# Altium footprint library 11.27呼叫器.PcbLib: 19 footprints (part 1 of 2)
Each footprint in its own frame and in the unit in brackets; x right, y up, seen from the top. Pads: shape width x height; smd on the part's side, far side on the other; paste and mask are expansions set on the pad; w line width, h text height; cw(c..) or ccw(c..) is an arc to the next point about the centre after c.
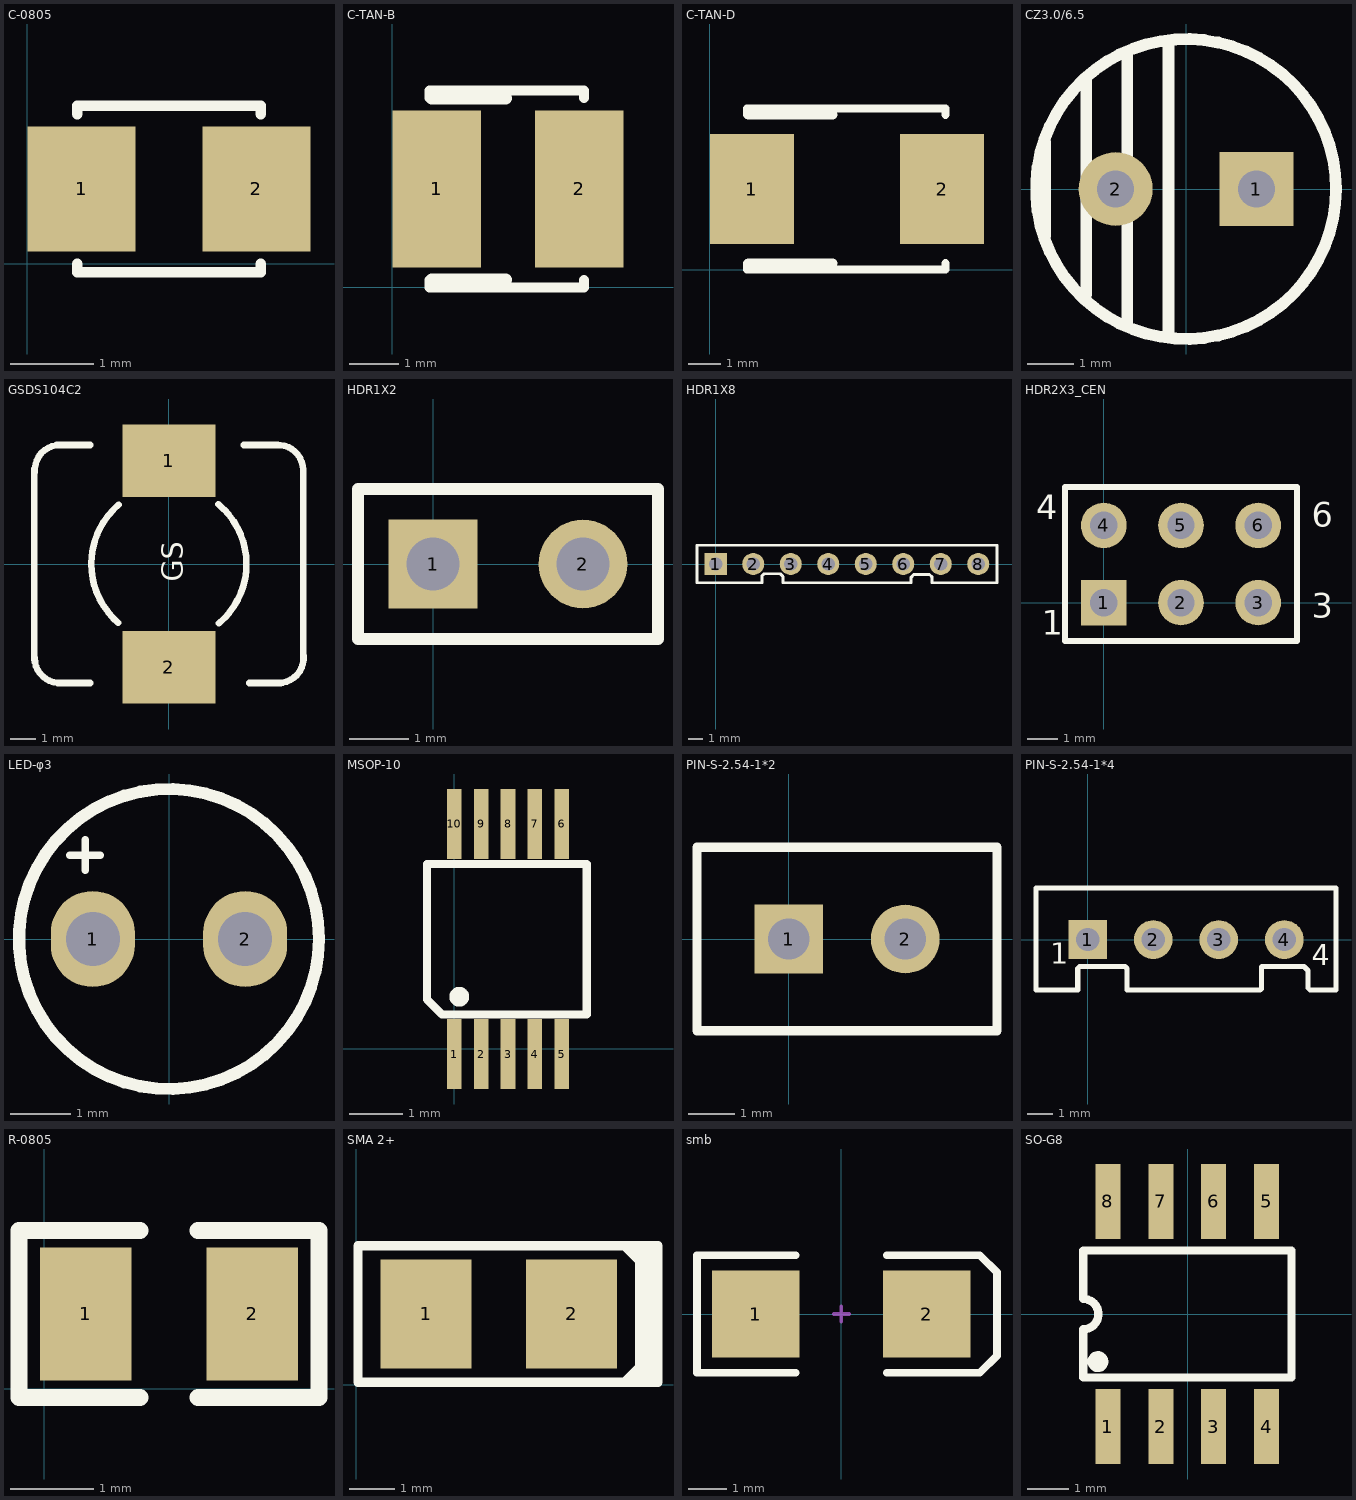
[diagram p0: the footprints below, top view; thin cyan lines are the x and y axes]

## C-0805 [mm]
height 1.5
pads (2):
  rect 1.3x1.5 smd: 1(0.65,0.9) 2(2.75,0.9)
Top Overlay:
  lines w0.127: 0.6,0 0.6,-0.1 2.8,-0.1 2.8,0 ; 0.6,1.8 0.6,1.9 2.8,1.9 2.8,1.8

## C-TAN-B [mm]
height 3
pads (2):
  rect 1.8x3.2 smd: 1(0.9,2) 2(3.8,2)
Top Overlay:
  lines w0.203: 0.75,0 0.75,0.15 ; 0.75,3.85 0.75,4 ; 0.8,0 3.9,0 3.9,0.15 ; 0.8,4 3.9,4 3.9,3.85
  lines w0.254: 0.8,0.15 2.3,0.15 ; 0.8,3.85 2.3,3.85

## C-TAN-D [mm]
height 3.7
pads (2):
  rect 2.6x3.4 smd: 1(1.3,2.5) 2(7.2,2.5)
Top Overlay:
  lines w0.254: 1.15,0 1.15,0.2 ; 1.15,4.8 1.15,5 ; 1.2,0 7.3,0 7.3,0.2 ; 1.2,5 7.3,5 7.3,4.8
  lines w0.305: 1.2,0.2 3.8,0.2 ; 1.2,4.8 3.8,4.8

## CZ3.0/6.5 [mm]
height 12.7
pads (2):
  rect 1.6x1.6 hole 0.8: 1(1.524,0)
  round 1.6 hole 0.8: 2(-1.524,0)
Top Overlay:
  circle w0.254: c0,0 r3.25
  lines w0.254: -3.048,-1.016 -3.048,1.016 ; -2.159,-2.286 -2.159,2.413 ; -1.27,-2.921 -1.27,2.921 ; -0.381,-3.175 -0.381,3.175

## GSDS104C2 [mm]
height 4
pads (2):
  rect 3.6x2.8 smd: 1(0,4) 2(0,-4)
Top Overlay:
  lines w0.254: -5.2,-3.708 -5.2,3.683 ; -5.189,-3.632 ccw(c-4.221,-3.632) -4.14,-4.597 ; -5.181,3.549 cw(c-4.216,3.629) -4.216,4.597 ; -4.343,4.6 -3.047,4.6 ; -4.293,-4.6 -3.047,-4.6 ; -1.951,-2.279 cw(c0,0) -1.933,2.294 ; 1.913,2.311 cw(c0,0) 1.932,-2.295 ; 2.896,4.6 4.216,4.6 ; 3.101,-4.6 4.318,-4.6 ; 4.14,4.597 cw(c4.221,3.632) 5.189,3.632 ; 4.242,-4.597 ccw(c4.242,-3.629) 5.207,-3.549 ; 5.2,-3.708 5.2,0 ; 5.2,-0.102 5.2,3.683
  text "GS" at 0.54,-0.68 h0.8

## HDR1X2 [mm] "Connector; Header; 2 Position"
pads (2):
  rect 1.5x1.5 hole 0.9: 1(0,0)
  round 1.5 hole 0.9: 2(2.54,0)
Top Overlay:
  lines w0.2: -1.27,-1.27 3.81,-1.27 3.81,1.27 -1.27,1.27 -1.27,-1.27

## HDR1X8 [mm] "Connector; Header; 8 Position"
pads (8):
  rect 1.5x1.5 hole 0.9: 1(0,0)
  round 1.5 hole 0.9: 2(2.54,0) 3(5.08,0) 4(7.62,0) 5(10.16,0) 6(12.7,0) 7(15.24,0) 8(17.78,0)
Top Overlay:
  lines w0.2: -1.27,-1.27 -1.27,1.27 19.05,1.27 19.05,-1.27
  lines w0.203: -1.27,-1.27 3.124,-1.27 3.124,-0.813 3.277,-0.66 4.369,-0.66 4.547,-0.838 4.547,-1.27 13.233,-1.27 13.233,-0.889 13.411,-0.711 14.478,-0.711 14.656,-0.889 14.656,-1.194 14.656,-1.27 19.05,-1.27

## HDR2X3_CEN [mm] "Connector; Header; 3x2 Position"
height 1
pads (6):
  rect 1.5x1.5 hole 0.9: 1(0,0)
  round 1.5 hole 0.9: 2(2.54,0) 3(5.08,0) 4(0,2.54) 5(2.54,2.54) 6(5.08,2.54)
Top Overlay:
  lines w0.2: -1.27,-1.27 6.35,-1.27 6.35,3.81 -1.27,3.81 -1.27,-1.27
  text "6" at 6.84,2.49 h0.8
  text "3" at 6.84,-0.5 h0.8
  text "1" at -2.04,-1.06 h0.8
  text "4" at -2.23,2.75 h0.8

## LED-φ3 [mm]
height 11
pads (2):
  oval 1.4x1.6 hole 0.9: 1(-1.27,0) 2(1.27,0)
Top Overlay:
  circle w0.203: c0,0 r2.5
  lines w0.127: -1.651,1.397 -1.143,1.397 ; -1.397,1.143 -1.397,1.651

## MSOP-10 [mm]
height 1
pads (10):
  rect 0.27x1.3 smd mask+0.05: 1(0,-0.1) 2(0.5,-0.1) 3(1,-0.1) 4(1.5,-0.1) 5(2,-0.1) 6(2,4.175) 7(1.5,4.175) 8(1,4.175) 9(0.5,4.175) 10(0,4.175)
Top Overlay:
  circle w0.254: c0.096,0.965 r0.057
  lines w0.15: -0.508,0.914 -0.229,0.635 2.464,0.635 2.464,3.429 -0.508,3.429 -0.508,0.914

## PIN-S-2.54-1*2 [mm]
pads (2):
  rect 1.5x1.5 hole 0.9: 1(0,0)
  round 1.5 hole 0.9: 2(2.54,0)
Top Overlay:
  lines w0.203: -2,-2 4.54,-2 4.54,2 -2,2 -2,-2

## PIN-S-2.54-1*4 [mm]
height 9
pads (4):
  rect 1.5x1.5 hole 0.9: 1(0,0)
  round 1.5 hole 0.9: 2(2.54,0) 3(5.08,0) 4(7.62,0)
Top Overlay:
  lines w0.203: 8.534,-1.88 8.534,-1.194 8.382,-1.041 6.756,-1.041 6.731,-1.067 6.731,-1.905 6.68,-1.956 1.524,-1.956 1.524,-1.118 1.448,-1.041 -0.305,-1.041 -0.381,-1.118 -0.381,-1.956 -2,-1.956 -2,2 9.62,2 9.62,-1.956 8.611,-1.956
  text "4" at 8.687,-0.991 h0.8
  text "1" at -1.448,-0.94 h0.8

## R-0805 [mm]
height 0.7
pads (2):
  rect 1.1x1.6 smd: 1(0.5,0.9) 2(2.5,0.9)
Top Overlay:
  lines w0.203: 1.15,-0.1 -0.3,-0.1 -0.3,1.9 1.15,1.9 ; 1.85,-0.1 3.3,-0.1 3.3,1.9 1.85,1.9

## SMA 2+ [mm]
height 2.8
pads (2):
  rect 2x2.4 smd: 1(1.538,1.554) 2(4.738,1.554)
Top Overlay:
  lines w0.127: 6.238,3.033 6.238,3.054
  lines w0.203: 5.896,0.054 6.238,0.396 ; 5.896,3.054 6.238,2.712 ; 6.238,0.054 6.238,3.054 ; 6.238,3.033 6.477,2.794 ; 6.277,0.054 6.277,3.054 ; 6.438,0.054 6.438,3.054 ; 6.531,0.054 6.531,3.054 ; 0.038,0.054 0.038,3.054 6.638,3.054 6.638,0.054 0.038,0.054

## smb [mm] "DO-214-AA/SMB; 2 C-Bend Leads; Body 5.3 x 3.6 mm, inc. leads (LxW)"
height 2.54
pads (2):
  rect 2.3x2.3 smd: 1(-2.25,0) 2(2.25,0)
Top Overlay:
  lines w0.2: -1.2,-1.55 -3.8,-1.55 -3.8,1.55 -1.2,1.55 ; 1.2,-1.55 3.65,-1.55 4.1,-1.1 4.1,1.1 3.65,1.55 1.2,1.55
Mechanical 1:
  lines w0.1: -0.2,0 0.2,0 ; 0,-0.2 0,0.2

## SO-G8 [mm]
height 2.5
pads (8):
  rect 0.6x1.8 smd: 1(-1.916,-2.7) 2(-0.646,-2.7) 3(0.624,-2.7) 4(1.894,-2.7) 5(1.894,2.7) 6(0.624,2.7) 7(-0.646,2.7) 8(-1.916,2.7)
Top Overlay:
  circle w0.25: c-2.157,-1.143 r0.125
  lines w0.2: -2.511,-1.524 -2.511,-0.369 ccw(c-2.511,-0.002) -2.511,0.365 -2.511,1.524 2.489,1.524 2.489,-1.524 -2.511,-1.524